# EAGLE library part BD6211 (library modular_robotics)
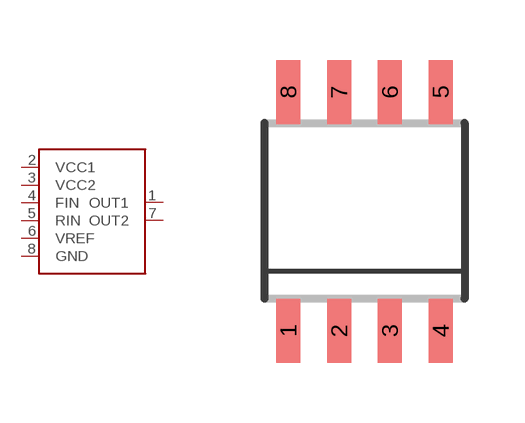
[diagram p16: symbol with the pads of SOP-08; footprint SOP-08]

Designator prefix -

## BD6211  [SOP-08]
1  OUT1
2  VCC1
3  VCC2
4  FIN
5  RIN
6  VREF
7  OUT2
8  GND

## Footprint SOP-08 (pad centres in mm)
PS (R-PDSO-G8) Source: http://focus.ti.com .. sn65176b.pdf
smd 0.6 x 1.6: 1 -1.905,-3; 2 -0.635,-3; 3 0.635,-3; 4 1.905,-3; 5 1.905,2.975; 6 0.635,2.975; 7 -0.635,2.975; 8 -1.905,2.975